# EAGLE library part TPS40305DRCR (library TPS40305)
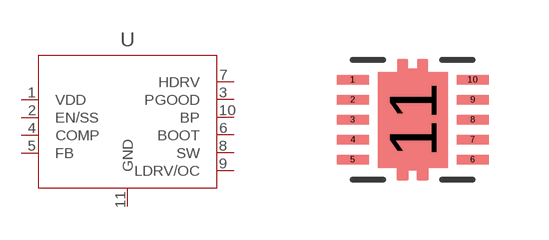
[diagram p0: symbol with the pads of S-PVSON-N10; footprint S-PVSON-N10]

Designator prefix -

## TPS40305DRCR (DATASHEETURL: http://www.ti.com/product/tps40305; FREQUENCY: 1200000.0; IMAX: 25.0; MANUFACTURER_NAME: Texas Instruments; MANUFACTURER_PART_NUMBER: TPS40305DRCR; MKTG_PACKAGE: TPS40305; NSID: TPS40305DRCT; PACKAGE: TPS40305; VENDOR: Texas Instruments)  [S-PVSON-N10]
1  VDD  pas
2  EN/SS  pas
3  PGOOD  pas
4  COMP  pas
5  FB  pas
6  BOOT  pas
7  HDRV  pas
8  SW  pas
9  LDRV/OC  pas
10  BP  pas
11  GND  pas

## Footprint S-PVSON-N10 (pad centres in mm)
smd 0.8 x 0.23: 1 -1.5,1; 2 -1.5,0.5; 3 -1.5,0; 4 -1.5,-0.5; 5 -1.5,-1; 6 1.5,-1; 7 1.5,-0.5; 8 1.5,0; 9 1.5,0.5; 10 1.5,1
smd 1.75 x 2.4: 11 0,0